# Altium schematic symbol library Switch.SchLib: 5 symbols
Pins are listed as number, name and electrical type; pins without a type are passive.

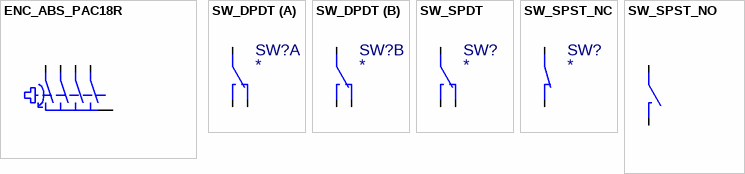
[diagram p0: symbols ENC_ABS_PAC18R to SW_SPST_NO]

## ENC_ABS_PAC18R
designator SW?
pins: 1 PG1, 2 PG2, 3 PG3, 4 PG4, 5 COM

## SW_DPDT
designator SW?
part A pins: 1 COM1, 2 NC1, 3 NO1
part B pins: 4 COM2, 5 NC2, 6 NO2

## SW_SPDT
designator SW?
pins: 1 COM, 2 NC, 3 NO

## SW_SPST_NC
designator SW?
pins: 1 COM, 2 NC

## SW_SPST_NO
designator SW?
pins: 1 COM, 2 NO